# Altium footprint library AMPHENOL_68001-103HLF.PcbLib: 1 footprints
Each footprint in its own frame and in the unit in brackets; x right, y up, seen from the top. Pads: shape width x height; smd on the part's side, far side on the other; paste and mask are expansions set on the pad; w line width, h text height; cw(c..) or ccw(c..) is an arc to the next point about the centre after c.
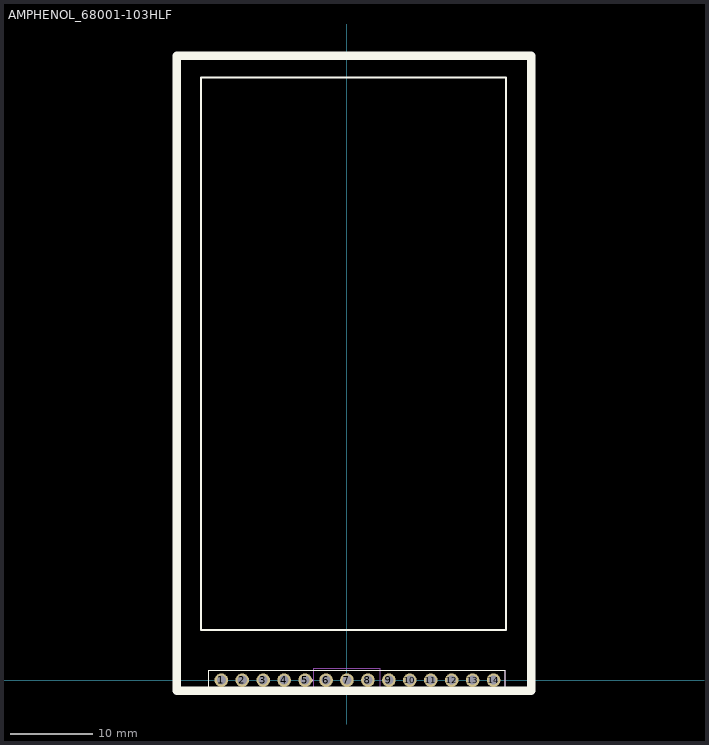
[diagram p0: the footprint, top view; thin cyan lines are the x and y axes]

## AMPHENOL_68001-103HLF [mm]
height 8.58
pads (14):
  round 1.65 hole 1.1: 1(-15.24,0) 2(-12.7,0) 3(-10.16,0) 4(-7.62,0) 5(-5.08,0) 6(-2.54,0) 7(0,0) 8(2.54,0) 9(5.08,0) 10(7.62,0) 11(10.16,0) 12(12.7,0) 13(15.24,0) 14(17.78,0)
Top Overlay:
  circle w0.2: c-4.35,0 r0.1
  lines w0.127: -16.764,-1.205 -16.764,1.205 19.177,1.205 19.177,-1.205 -16.764,-1.205
  lines w0.254: -17.696,6.096 19.304,6.096 19.304,73.096 -17.696,73.096 -17.696,6.096
  lines w1: -20.648,-1.27 22.352,-1.27 22.352,75.73 -20.648,75.73 -20.648,-1.27
Mechanical 13:
  circle w0.2: c-4.35,0 r0.1
  lines w0.127: -16.764,-1.205 -16.764,1.205 19.177,1.205 19.177,-1.205 -16.764,-1.205
Mechanical 15:
  lines w0.05: -4.06,-1.455 -4.06,1.455 4.06,1.455 4.06,-1.455 -4.06,-1.455
3D body "step_temp.STEP": height 8.38, standoff -3.05, extent -16.764,-1.14 -9.144,1.27